# Altium integrated library National Semiconductor Amplifier.IntLib: 1665 symbols (part 5 of 44)
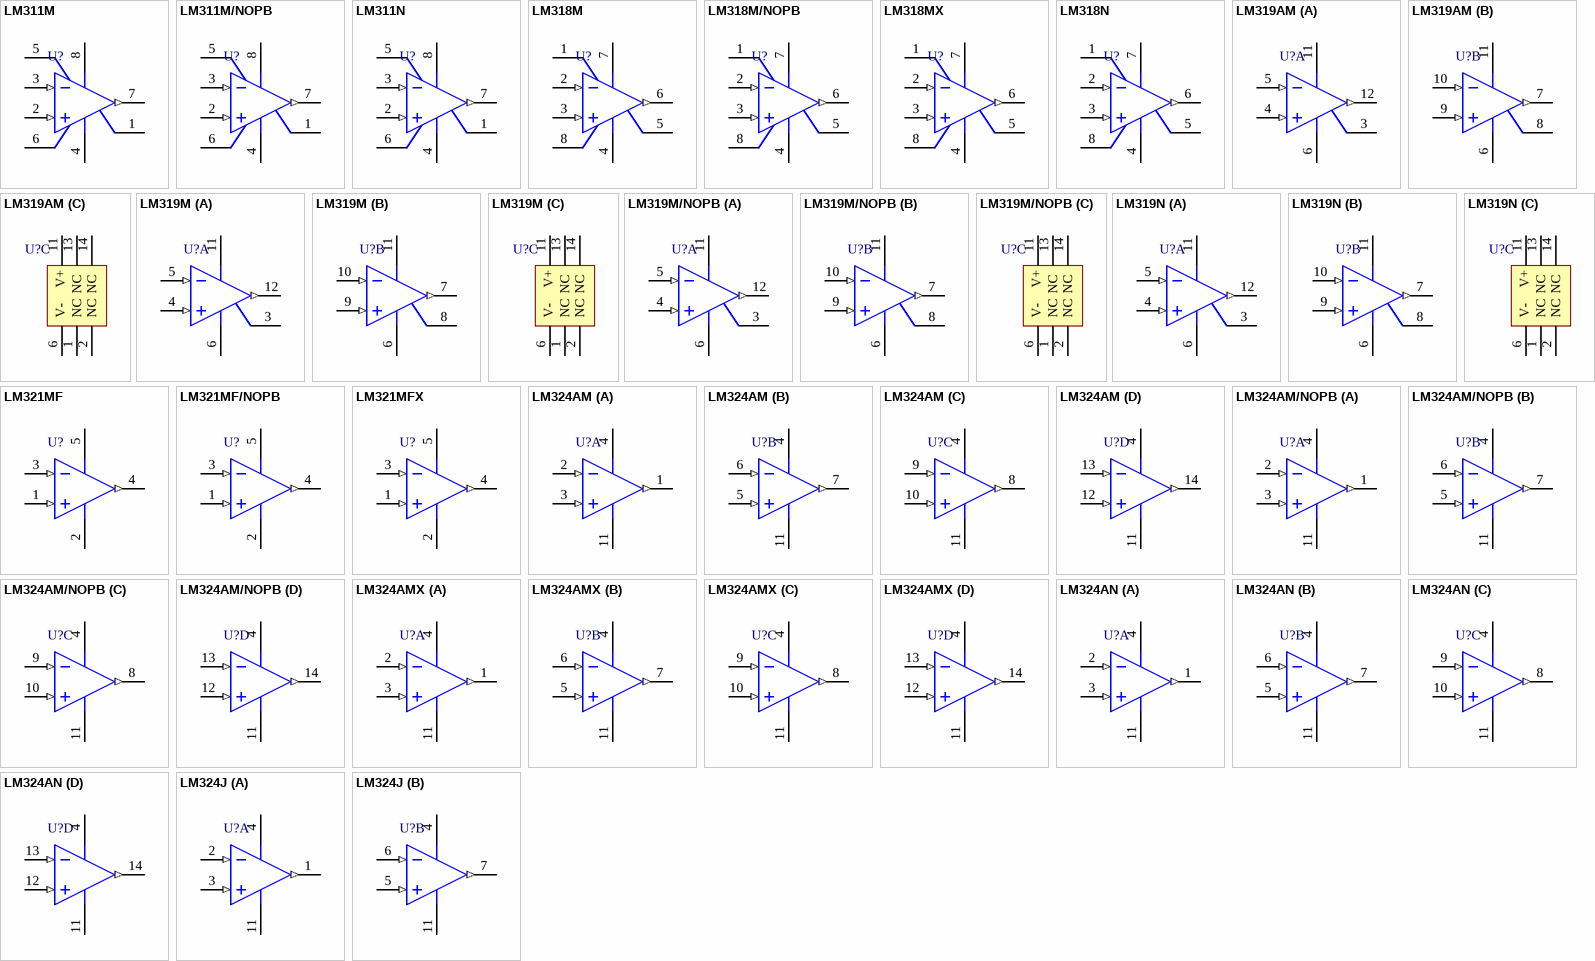
[diagram p88: symbols LM311M to LM324J]

## LM318MX
designator U?
Operational Amplifier, 8-pin Narrow SOIC; PartNumber: LM318MX; Manufacturer: National Semiconductor; PackageTopMarking: NSZXTT*LM*318M; PowerWise: N; CompType: Amplifiers; High-Reliability: Y; DatasheetVersion: Aug-2000; PackageVersion: revM, May-2009; PackageReference: M08A; PackageDescription: SOIC Narrow, 4.9 x 3.9 x 1.45mm, 8 Lead, 1.27mm Pitch; RoHS: N; PinCount: 8; Code_JEDEC: MS-012-AA; Code_IPC: SOIC127P600-8; ComponentLink1Description: Manufacturer URL; ComponentLink1URL: http://www.national.com/; ComponentLink2Description: LM318 Datasheet; ComponentLink2URL: http://www.national.com/ds/LM/LM318.pdf; ComponentLink3Description: LM318 Web Page; ComponentLink3URL: http://www.national.com/pf/LM/LM318.html; ComponentLink4Description: M08A Package Page; ComponentLink4URL: http://www.national.com/packaging/folders/m08a.html
footprint M08A_N (SOIC, 8-Leads, Body 4.9x3.9mm, Pitch 1.27mm, IPC Medium Density)
footprint M08A_L (SOIC, 8-Leads, Body 4.9x3.9mm, Pitch 1.27mm, IPC High Density)
footprint M08A_M (SOIC, 8-Leads, Body 4.9x3.9mm, Pitch 1.27mm, IPC Low Density)
pins: 1 BAL/COMP1, 2 IN- (in), 3 IN+ (in), 4 V- (power), 5 BAL/COMP3, 6 OUT (out), 7 V+ (power), 8 COMP2

## LM318N
designator U?
Operational Amplifier, 8-pin MDIP; PartNumber: LM318N; Manufacturer: National Semiconductor; PackageTopMarking: NSUZXYTTE#*LM*318N; PowerWise: N; CompType: Amplifiers; High-Reliability: Y; DatasheetVersion: Aug-2000; PackageVersion: revG, May-2006; PackageReference: N08E; PackageDescription: MDIP, .365 x .250 x .130in, 8 Lead, .100in Pitch; RoHS: N; PinCount: 8; Code_JEDEC: MS-001-BA; ComponentLink1Description: Manufacturer URL; ComponentLink1URL: http://www.national.com/; ComponentLink2Description: LM318 Datasheet; ComponentLink2URL: http://www.national.com/ds/LM/LM318.pdf; ComponentLink3Description: LM318 Web Page; ComponentLink3URL: http://www.national.com/pf/LM/LM318.html; ComponentLink4Description: N08E Package Page; ComponentLink4URL: http://www.national.com/packaging/folders/n08e.html
footprint N08E (DIP, 8-Leads, Row Spacing 7.62mm, Pitch 2.54mm, Body 9.91x6.35mm)
pins: 1 BAL/COMP1, 2 IN- (in), 3 IN+ (in), 4 V- (power), 5 BAL/COMP3, 6 OUT (out), 7 V+ (power), 8 COMP2

## LM319AM
designator U?
High Speed Dual Comparator, 14-pin Narrow SOIC; PartNumber: LM319AM; Manufacturer: National Semiconductor; PackageTopMarking: NSUZXYTTE#*LM319AM; PowerWise: N; CompType: Amplifiers; High-Reliability: Y; DatasheetVersion: Aug-2000; PackageVersion: revJ, Jan-1996; PackageReference: M14A; PackageDescription: Molded Package S.O., .150in Wide, 14 Lead; RoHS: N; PinCount: 14; Code_JEDEC: MS-012AB; Code_IPC: SOIC127P600-14; ComponentLink1Description: Manufacturer URL; ComponentLink1URL: http://www.national.com/; ComponentLink2Description: LM319 Datasheet; ComponentLink2URL: http://www.national.com/ds/LM/LM319.pdf; ComponentLink3Description: LM319 Web Page; ComponentLink3URL: http://www.national.com/pf/LM/LM319.html; ComponentLink4Description: M14A Package Page; ComponentLink4URL: http://www.national.com/packaging/folders/m14a.html
footprint M14A_N (SOIC, 14-Leads, Body 8.6x3.9mm, Pitch 1.27mm, IPC Medium Density)
footprint M14A_L (SOIC, 14-Leads, Body 8.6x3.9mm, Pitch 1.27mm, IPC High Density)
footprint M14A_M (SOIC, 14-Leads, Body 8.6x3.9mm, Pitch 1.27mm, IPC Low Density)
pins on every part: 6 V- (power), 11 V+ (power)
part A pins: 3 GND1 (power), 4 IN1+ (in), 5 IN1- (in), 12 OUT1 (out)
part B pins: 7 OUT2 (out), 8 GND2 (power), 9 IN2+ (in), 10 IN2- (in)
part C pins: 1 NC, 2 NC, 13 NC, 14 NC

## LM319M
designator U?
High Speed Dual Comparator, 14-pin Narrow SOIC; PartNumber: LM319M; Manufacturer: National Semiconductor; PackageTopMarking: NSUZXYTTE#*LM319M; PowerWise: N; CompType: Amplifiers; High-Reliability: Y; DatasheetVersion: Aug-2000; PackageVersion: revJ, Jan-1996; PackageReference: M14A; PackageDescription: Molded Package S.O., .150in Wide, 14 Lead; RoHS: N; PinCount: 14; Code_JEDEC: MS-012AB; Code_IPC: SOIC127P600-14; ComponentLink1Description: Manufacturer URL; ComponentLink1URL: http://www.national.com/; ComponentLink2Description: LM319 Datasheet; ComponentLink2URL: http://www.national.com/ds/LM/LM319.pdf; ComponentLink3Description: LM319 Web Page; ComponentLink3URL: http://www.national.com/pf/LM/LM319.html; ComponentLink4Description: M14A Package Page; ComponentLink4URL: http://www.national.com/packaging/folders/m14a.html
footprint M14A_N (SOIC, 14-Leads, Body 8.6x3.9mm, Pitch 1.27mm, IPC Medium Density)
footprint M14A_L (SOIC, 14-Leads, Body 8.6x3.9mm, Pitch 1.27mm, IPC High Density)
footprint M14A_M (SOIC, 14-Leads, Body 8.6x3.9mm, Pitch 1.27mm, IPC Low Density)
pins on every part: 6 V- (power), 11 V+ (power)
part A pins: 3 GND1 (power), 4 IN1+ (in), 5 IN1- (in), 12 OUT1 (out)
part B pins: 7 OUT2 (out), 8 GND2 (power), 9 IN2+ (in), 10 IN2- (in)
part C pins: 1 NC, 2 NC, 13 NC, 14 NC

## LM319M/NOPB
designator U?
High Speed Dual Comparator, 14-pin Narrow SOIC, Pb-Free; PartNumber: LM319M/NOPB; Manufacturer: National Semiconductor; PackageTopMarking: NSUZXYTTE#*LM319M; PowerWise: N; CompType: Amplifiers; High-Reliability: Y; DatasheetVersion: Aug-2000; PackageVersion: revJ, Jan-1996; PackageReference: M14A; PackageDescription: Molded Package S.O., .150in Wide, 14 Lead; RoHS: Y; PinCount: 14; Code_JEDEC: MS-012AB; Code_IPC: SOIC127P600-14; ComponentLink1Description: Manufacturer URL; ComponentLink1URL: http://www.national.com/; ComponentLink2Description: LM319 Datasheet; ComponentLink2URL: http://www.national.com/ds/LM/LM319.pdf; ComponentLink3Description: LM319 Web Page; ComponentLink3URL: http://www.national.com/pf/LM/LM319.html; ComponentLink4Description: M14A Package Page; ComponentLink4URL: http://www.national.com/packaging/folders/m14a.html
footprint M14A_N (SOIC, 14-Leads, Body 8.6x3.9mm, Pitch 1.27mm, IPC Medium Density)
footprint M14A_L (SOIC, 14-Leads, Body 8.6x3.9mm, Pitch 1.27mm, IPC High Density)
footprint M14A_M (SOIC, 14-Leads, Body 8.6x3.9mm, Pitch 1.27mm, IPC Low Density)
pins on every part: 6 V- (power), 11 V+ (power)
part A pins: 3 GND1 (power), 4 IN1+ (in), 5 IN1- (in), 12 OUT1 (out)
part B pins: 7 OUT2 (out), 8 GND2 (power), 9 IN2+ (in), 10 IN2- (in)
part C pins: 1 NC, 2 NC, 13 NC, 14 NC

## LM319N
designator U?
High Speed Dual Comparator, 14-pin MDIP; PartNumber: LM319N; Manufacturer: National Semiconductor; PackageTopMarking: NSUZXYYTTE#*LM319N; PowerWise: N; CompType: Amplifiers; High-Reliability: Y; DatasheetVersion: Aug-2000; PackageVersion: revG, May-2006; PackageReference: N14A; PackageDescription: MDIP, .750 x .250 x.130in, 14 Lead, .100in Pitch; RoHS: N; PinCount: 14; Code_JEDEC: MS-001-AA; ComponentLink1Description: Manufacturer URL; ComponentLink1URL: http://www.national.com/; ComponentLink2Description: LM319 Datasheet; ComponentLink2URL: http://www.national.com/ds/LM/LM319.pdf; ComponentLink3Description: LM319 Web Page; ComponentLink3URL: http://www.national.com/pf/LM/LM319.html; ComponentLink4Description: N14A Package Page; ComponentLink4URL: http://www.national.com/packaging/folders/n14a.html
footprint N14A (DIP, 14-Leads, Row Spacing 7.62mm, Pitch 2.54mm, Body 19.56x6.35mm)
pins on every part: 6 V- (power), 11 V+ (power)
part A pins: 3 GND1 (power), 4 IN1+ (in), 5 IN1- (in), 12 OUT1 (out)
part B pins: 7 OUT2 (out), 8 GND2 (power), 9 IN2+ (in), 10 IN2- (in)
part C pins: 1 NC, 2 NC, 13 NC, 14 NC

## LM321MF
designator U?
Low Power Single Op Amp, 5-pin SOT-23; PartNumber: LM321MF; Manufacturer: National Semiconductor; PackageTopMarking: A63A*XTT; PowerWise: N; CompType: Amplifiers; High-Reliability: Y; DatasheetVersion: Apr-2001; PackageVersion: revD, Aug-2008; PackageReference: MF05A; PackageDescription: Molded SOT-23, .115 x .063 x .040 in Body, 5 Lead, .0375 in Pitch; RoHS: N; PinCount: 5; ComponentLink1Description: Manufacturer URL; ComponentLink1URL: http://www.national.com/; ComponentLink2Description: LM321 Datasheet; ComponentLink2URL: http://www.national.com/ds/LM/LM321.pdf; ComponentLink3Description: LM321 Web Page; ComponentLink3URL: http://www.national.com/pf/LM/LM321.html; ComponentLink4Description: MF05A Package Page; ComponentLink4URL: http://www.national.com/packaging/folders/mf05a.html
footprint MF05A_N (SOT23, 5-Leads, Body 2.9x1.6mm, Pitch 0.95mm, Lead Span 2.8mm, IPC Medium Density)
footprint MF05A_L (SOT23, 5-Leads, Body 2.9x1.6mm, Pitch 0.95mm, Lead Span 2.8mm, IPC High Density)
footprint MF05A_M (SOT23, 5-Leads, Body 2.9x1.6mm, Pitch 0.95mm, Lead Span 2.8mm, IPC Low Density)
pins: 1 IN+ (in), 2 V- (power), 3 IN- (in), 4 OUT (out), 5 V+ (power)

## LM321MF/NOPB
designator U?
Low Power Single Op Amp, 5-pin SOT-23, Pb-Free; PartNumber: LM321MF/NOPB; Manufacturer: National Semiconductor; PackageTopMarking: A63A*XTT; PowerWise: N; CompType: Amplifiers; High-Reliability: Y; DatasheetVersion: Apr-2001; PackageVersion: revD, Aug-2008; PackageReference: MF05A; PackageDescription: Molded SOT-23, .115 x .063 x .040 in Body, 5 Lead, .0375 in Pitch; RoHS: Y; PinCount: 5; ComponentLink1Description: Manufacturer URL; ComponentLink1URL: http://www.national.com/; ComponentLink2Description: LM321 Datasheet; ComponentLink2URL: http://www.national.com/ds/LM/LM321.pdf; ComponentLink3Description: LM321 Web Page; ComponentLink3URL: http://www.national.com/pf/LM/LM321.html; ComponentLink4Description: MF05A Package Page; ComponentLink4URL: http://www.national.com/packaging/folders/mf05a.html
footprint MF05A_N (SOT23, 5-Leads, Body 2.9x1.6mm, Pitch 0.95mm, Lead Span 2.8mm, IPC Medium Density)
footprint MF05A_L (SOT23, 5-Leads, Body 2.9x1.6mm, Pitch 0.95mm, Lead Span 2.8mm, IPC High Density)
footprint MF05A_M (SOT23, 5-Leads, Body 2.9x1.6mm, Pitch 0.95mm, Lead Span 2.8mm, IPC Low Density)
pins: 1 IN+ (in), 2 V- (power), 3 IN- (in), 4 OUT (out), 5 V+ (power)

## LM321MFX
designator U?
Low Power Single Op Amp, 5-pin SOT-23; PartNumber: LM321MFX; Manufacturer: National Semiconductor; PackageTopMarking: A63A*XTT; PowerWise: N; CompType: Amplifiers; High-Reliability: Y; DatasheetVersion: Apr-2001; PackageVersion: revD, Aug-2008; PackageReference: MF05A; PackageDescription: Molded SOT-23, .115 x .063 x .040 in Body, 5 Lead, .0375 in Pitch; RoHS: N; PinCount: 5; ComponentLink1Description: Manufacturer URL; ComponentLink1URL: http://www.national.com/; ComponentLink2Description: LM321 Datasheet; ComponentLink2URL: http://www.national.com/ds/LM/LM321.pdf; ComponentLink3Description: LM321 Web Page; ComponentLink3URL: http://www.national.com/pf/LM/LM321.html; ComponentLink4Description: MF05A Package Page; ComponentLink4URL: http://www.national.com/packaging/folders/mf05a.html
footprint MF05A_N (SOT23, 5-Leads, Body 2.9x1.6mm, Pitch 0.95mm, Lead Span 2.8mm, IPC Medium Density)
footprint MF05A_L (SOT23, 5-Leads, Body 2.9x1.6mm, Pitch 0.95mm, Lead Span 2.8mm, IPC High Density)
footprint MF05A_M (SOT23, 5-Leads, Body 2.9x1.6mm, Pitch 0.95mm, Lead Span 2.8mm, IPC Low Density)
pins: 1 IN+ (in), 2 V- (power), 3 IN- (in), 4 OUT (out), 5 V+ (power)

## LM324AM
designator U?
Low Power Quad Operational Amplifier, 14-pin Narrow SOIC; PartNumber: LM324AM; Manufacturer: National Semiconductor; PackageTopMarking: NSUZXYTTE#*LM324AM; PowerWise: N; CompType: Amplifiers; High-Reliability: Y; DatasheetVersion: Aug-2000; PackageVersion: revJ, Jan-1996; PackageReference: M14A; PackageDescription: Molded Package S.O., .150in Wide, 14 Lead; RoHS: N; PinCount: 14; Code_JEDEC: MS-012AB; Code_IPC: SOIC127P600-14; ComponentLink1Description: Manufacturer URL; ComponentLink1URL: http://www.national.com/; ComponentLink2Description: LM324 Datasheet; ComponentLink2URL: http://www.national.com/ds/LM/LM324.pdf; ComponentLink3Description: LM324 Web Page; ComponentLink3URL: http://www.national.com/pf/LM/LM324.html; ComponentLink4Description: M14A Package Page; ComponentLink4URL: http://www.national.com/packaging/folders/m14a.html
footprint M14A_N (SOIC, 14-Leads, Body 8.6x3.9mm, Pitch 1.27mm, IPC Medium Density)
footprint M14A_L (SOIC, 14-Leads, Body 8.6x3.9mm, Pitch 1.27mm, IPC High Density)
footprint M14A_M (SOIC, 14-Leads, Body 8.6x3.9mm, Pitch 1.27mm, IPC Low Density)
pins on every part: 4 V+ (power), 11 GND (power)
part A pins: 1 OUT1 (out), 2 IN1- (in), 3 IN1+ (in)
part B pins: 5 IN2+ (in), 6 IN2- (in), 7 OUT2 (out)
part C pins: 8 OUT3 (out), 9 IN3- (in), 10 IN3+ (in)
part D pins: 12 IN4+ (in), 13 IN4- (in), 14 OUT4 (out)

## LM324AM/NOPB
designator U?
Low Power Quad Operational Amplifier, 14-pin Narrow SOIC, Pb-Free; PartNumber: LM324AM/NOPB; Manufacturer: National Semiconductor; PackageTopMarking: NSUZXYTTE#*LM324AM; PowerWise: N; CompType: Amplifiers; High-Reliability: Y; DatasheetVersion: Aug-2000; PackageVersion: revJ, Jan-1996; PackageReference: M14A; PackageDescription: Molded Package S.O., .150in Wide, 14 Lead; RoHS: Y; PinCount: 14; Code_JEDEC: MS-012AB; Code_IPC: SOIC127P600-14; ComponentLink1Description: Manufacturer URL; ComponentLink1URL: http://www.national.com/; ComponentLink2Description: LM324 Datasheet; ComponentLink2URL: http://www.national.com/ds/LM/LM324.pdf; ComponentLink3Description: LM324 Web Page; ComponentLink3URL: http://www.national.com/pf/LM/LM324.html; ComponentLink4Description: M14A Package Page; ComponentLink4URL: http://www.national.com/packaging/folders/m14a.html
footprint M14A_N (SOIC, 14-Leads, Body 8.6x3.9mm, Pitch 1.27mm, IPC Medium Density)
footprint M14A_L (SOIC, 14-Leads, Body 8.6x3.9mm, Pitch 1.27mm, IPC High Density)
footprint M14A_M (SOIC, 14-Leads, Body 8.6x3.9mm, Pitch 1.27mm, IPC Low Density)
pins on every part: 4 V+ (power), 11 GND (power)
part A pins: 1 OUT1 (out), 2 IN1- (in), 3 IN1+ (in)
part B pins: 5 IN2+ (in), 6 IN2- (in), 7 OUT2 (out)
part C pins: 8 OUT3 (out), 9 IN3- (in), 10 IN3+ (in)
part D pins: 12 IN4+ (in), 13 IN4- (in), 14 OUT4 (out)

## LM324AMX
designator U?
Low Power Quad Operational Amplifier, 14-pin Narrow SOIC; PartNumber: LM324AMX; Manufacturer: National Semiconductor; PackageTopMarking: NSUZXYTTE#*LM324AM; PowerWise: N; CompType: Amplifiers; High-Reliability: Y; DatasheetVersion: Aug-2000; PackageVersion: revJ, Jan-1996; PackageReference: M14A; PackageDescription: Molded Package S.O., .150in Wide, 14 Lead; RoHS: N; PinCount: 14; Code_JEDEC: MS-012AB; Code_IPC: SOIC127P600-14; ComponentLink1Description: Manufacturer URL; ComponentLink1URL: http://www.national.com/; ComponentLink2Description: LM324 Datasheet; ComponentLink2URL: http://www.national.com/ds/LM/LM324.pdf; ComponentLink3Description: LM324 Web Page; ComponentLink3URL: http://www.national.com/pf/LM/LM324.html; ComponentLink4Description: M14A Package Page; ComponentLink4URL: http://www.national.com/packaging/folders/m14a.html
footprint M14A_N (SOIC, 14-Leads, Body 8.6x3.9mm, Pitch 1.27mm, IPC Medium Density)
footprint M14A_L (SOIC, 14-Leads, Body 8.6x3.9mm, Pitch 1.27mm, IPC High Density)
footprint M14A_M (SOIC, 14-Leads, Body 8.6x3.9mm, Pitch 1.27mm, IPC Low Density)
pins on every part: 4 V+ (power), 11 GND (power)
part A pins: 1 OUT1 (out), 2 IN1- (in), 3 IN1+ (in)
part B pins: 5 IN2+ (in), 6 IN2- (in), 7 OUT2 (out)
part C pins: 8 OUT3 (out), 9 IN3- (in), 10 IN3+ (in)
part D pins: 12 IN4+ (in), 13 IN4- (in), 14 OUT4 (out)

## LM324AN
designator U?
Low Power Quad Operational Amplifier, 14-pin MDIP; PartNumber: LM324AN; Manufacturer: National Semiconductor; PackageTopMarking: NSUZXYYTTE#*LM324AN; PowerWise: N; CompType: Amplifiers; High-Reliability: Y; DatasheetVersion: Aug-2000; PackageVersion: revG, May-2006; PackageReference: N14A; PackageDescription: MDIP, .750 x .250 x.130in, 14 Lead, .100in Pitch; RoHS: N; PinCount: 14; Code_JEDEC: MS-001-AA; ComponentLink1Description: Manufacturer URL; ComponentLink1URL: http://www.national.com/; ComponentLink2Description: LM324 Datasheet; ComponentLink2URL: http://www.national.com/ds/LM/LM324.pdf; ComponentLink3Description: LM324 Web Page; ComponentLink3URL: http://www.national.com/pf/LM/LM324.html; ComponentLink4Description: N14A Package Page; ComponentLink4URL: http://www.national.com/packaging/folders/n14a.html
footprint N14A (DIP, 14-Leads, Row Spacing 7.62mm, Pitch 2.54mm, Body 19.56x6.35mm)
pins on every part: 4 V+ (power), 11 GND (power)
part A pins: 1 OUT1 (out), 2 IN1- (in), 3 IN1+ (in)
part B pins: 5 IN2+ (in), 6 IN2- (in), 7 OUT2 (out)
part C pins: 8 OUT3 (out), 9 IN3- (in), 10 IN3+ (in)
part D pins: 12 IN4+ (in), 13 IN4- (in), 14 OUT4 (out)

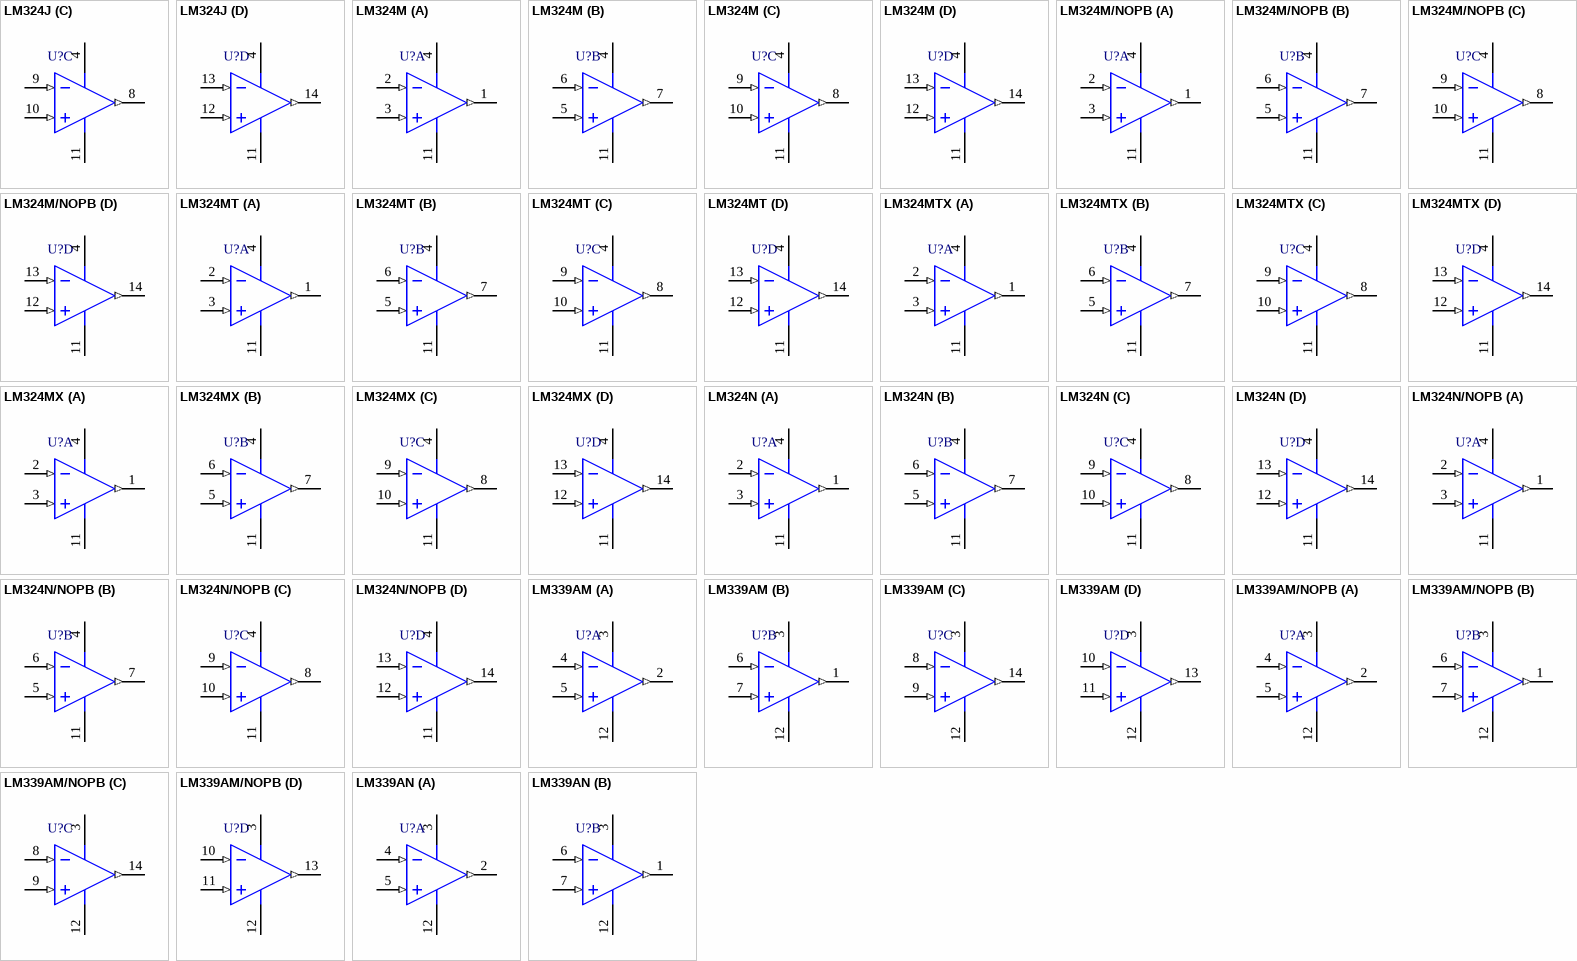
[diagram p11: symbols LM324J to LM339AN]

## LM324J
designator U?
Low Power Quad Operational Amplifier, 14-pin CerDIP; PartNumber: LM324J; Manufacturer: National Semiconductor; PackageTopMarking: NSUZXYYTT*LM324J; PowerWise: N; CompType: Amplifiers; High-Reliability: Y; DatasheetVersion: Aug-2000; PackageVersion: revJ, Jul-2002; PackageReference: J14A; PackageDescription: Cerdip, .400 x .310in Body, 14 Lead, .300in Centers, .100in Pitch; RoHS: N; PinCount: 14; ComponentLink1Description: Manufacturer URL; ComponentLink1URL: http://www.national.com/; ComponentLink2Description: LM324 Datasheet; ComponentLink2URL: http://www.national.com/ds/LM/LM324.pdf; ComponentLink3Description: LM324 Web Page; ComponentLink3URL: http://www.national.com/pf/LM/LM324.html; ComponentLink4Description: J14A Package Page; ComponentLink4URL: http://www.national.com/packaging/folders/j14a.html
footprint J14A (DIP, 14-Leads, Row Spacing 7.62mm, Pitch 2.54mm, Body 19.56x6.73mm)
pins on every part: 4 V+ (power), 11 GND (power)
part A pins: 1 OUT1 (out), 2 IN1- (in), 3 IN1+ (in)
part B pins: 5 IN2+ (in), 6 IN2- (in), 7 OUT2 (out)
part C pins: 8 OUT3 (out), 9 IN3- (in), 10 IN3+ (in)
part D pins: 12 IN4+ (in), 13 IN4- (in), 14 OUT4 (out)

## LM324M
designator U?
Low Power Quad Operational Amplifier, 14-pin Narrow SOIC; PartNumber: LM324M; Manufacturer: National Semiconductor; PackageTopMarking: NSUZXYTTE#*LM324M; PowerWise: N; CompType: Amplifiers; High-Reliability: Y; DatasheetVersion: Aug-2000; PackageVersion: revJ, Jan-1996; PackageReference: M14A; PackageDescription: Molded Package S.O., .150in Wide, 14 Lead; RoHS: N; PinCount: 14; Code_JEDEC: MS-012AB; Code_IPC: SOIC127P600-14; ComponentLink1Description: Manufacturer URL; ComponentLink1URL: http://www.national.com/; ComponentLink2Description: LM324 Datasheet; ComponentLink2URL: http://www.national.com/ds/LM/LM324.pdf; ComponentLink3Description: LM324 Web Page; ComponentLink3URL: http://www.national.com/pf/LM/LM324.html; ComponentLink4Description: M14A Package Page; ComponentLink4URL: http://www.national.com/packaging/folders/m14a.html
footprint M14A_N (SOIC, 14-Leads, Body 8.6x3.9mm, Pitch 1.27mm, IPC Medium Density)
footprint M14A_L (SOIC, 14-Leads, Body 8.6x3.9mm, Pitch 1.27mm, IPC High Density)
footprint M14A_M (SOIC, 14-Leads, Body 8.6x3.9mm, Pitch 1.27mm, IPC Low Density)
pins on every part: 4 V+ (power), 11 GND (power)
part A pins: 1 OUT1 (out), 2 IN1- (in), 3 IN1+ (in)
part B pins: 5 IN2+ (in), 6 IN2- (in), 7 OUT2 (out)
part C pins: 8 OUT3 (out), 9 IN3- (in), 10 IN3+ (in)
part D pins: 12 IN4+ (in), 13 IN4- (in), 14 OUT4 (out)

## LM324M/NOPB
designator U?
Low Power Quad Operational Amplifier, 14-pin Narrow SOIC, Pb-Free; PartNumber: LM324M/NOPB; Manufacturer: National Semiconductor; PackageTopMarking: NSUZXYTTE#*LM324M; PowerWise: N; CompType: Amplifiers; High-Reliability: Y; DatasheetVersion: Aug-2000; PackageVersion: revJ, Jan-1996; PackageReference: M14A; PackageDescription: Molded Package S.O., .150in Wide, 14 Lead; RoHS: Y; PinCount: 14; Code_JEDEC: MS-012AB; Code_IPC: SOIC127P600-14; ComponentLink1Description: Manufacturer URL; ComponentLink1URL: http://www.national.com/; ComponentLink2Description: LM324 Datasheet; ComponentLink2URL: http://www.national.com/ds/LM/LM324.pdf; ComponentLink3Description: LM324 Web Page; ComponentLink3URL: http://www.national.com/pf/LM/LM324.html; ComponentLink4Description: M14A Package Page; ComponentLink4URL: http://www.national.com/packaging/folders/m14a.html
footprint M14A_N (SOIC, 14-Leads, Body 8.6x3.9mm, Pitch 1.27mm, IPC Medium Density)
footprint M14A_L (SOIC, 14-Leads, Body 8.6x3.9mm, Pitch 1.27mm, IPC High Density)
footprint M14A_M (SOIC, 14-Leads, Body 8.6x3.9mm, Pitch 1.27mm, IPC Low Density)
pins on every part: 4 V+ (power), 11 GND (power)
part A pins: 1 OUT1 (out), 2 IN1- (in), 3 IN1+ (in)
part B pins: 5 IN2+ (in), 6 IN2- (in), 7 OUT2 (out)
part C pins: 8 OUT3 (out), 9 IN3- (in), 10 IN3+ (in)
part D pins: 12 IN4+ (in), 13 IN4- (in), 14 OUT4 (out)

## LM324MT
designator U?
Low Power Quad Operational Amplifier, 14-pin TSSOP; PartNumber: LM324MT; Manufacturer: National Semiconductor; PackageTopMarking: NSZXYTT*LM324*MT; PowerWise: N; CompType: Amplifiers; High-Reliability: Y; DatasheetVersion: Aug-2000; PackageVersion: revD, Jun-2003; PackageReference: MTC14; PackageDescription: Molded TSSOP, JEDEC, 5 x 4.4 x 0.9mm Body, 14 Lead, 0.65mm Pitch; RoHS: N; PinCount: 14; Code_JEDEC: MO-153-AB-1; ComponentLink1Description: Manufacturer URL; ComponentLink1URL: http://www.national.com/; ComponentLink2Description: LM324 Datasheet; ComponentLink2URL: http://www.national.com/ds/LM/LM324.pdf; ComponentLink3Description: LM324 Web Page; ComponentLink3URL: http://www.national.com/pf/LM/LM324.html; ComponentLink4Description: MTC14 Package Page; ComponentLink4URL: http://www.national.com/packaging/folders/mtc14.html
footprint MTC14_N (TSOP, 14-Leads, Body 5x4.4mm, Pitch 0.65mm, IPC Medium Density)
footprint MTC14_L (TSOP, 14-Leads, Body 5x4.4mm, Pitch 0.65mm, IPC High Density)
footprint MTC14_M (TSOP, 14-Leads, Body 5x4.4mm, Pitch 0.65mm, IPC Low Density)
pins on every part: 4 V+ (power), 11 GND (power)
part A pins: 1 OUT1 (out), 2 IN1- (in), 3 IN1+ (in)
part B pins: 5 IN2+ (in), 6 IN2- (in), 7 OUT2 (out)
part C pins: 8 OUT3 (out), 9 IN3- (in), 10 IN3+ (in)
part D pins: 12 IN4+ (in), 13 IN4- (in), 14 OUT4 (out)

## LM324MTX
designator U?
Low Power Quad Operational Amplifier, 14-pin TSSOP; PartNumber: LM324MTX; Manufacturer: National Semiconductor; PackageTopMarking: NSZXYTT*LM324*MT; PowerWise: N; CompType: Amplifiers; High-Reliability: Y; DatasheetVersion: Aug-2000; PackageVersion: revD, Jun-2003; PackageReference: MTC14; PackageDescription: Molded TSSOP, JEDEC, 5 x 4.4 x 0.9mm Body, 14 Lead, 0.65mm Pitch; RoHS: N; PinCount: 14; Code_JEDEC: MO-153-AB-1; ComponentLink1Description: Manufacturer URL; ComponentLink1URL: http://www.national.com/; ComponentLink2Description: LM324 Datasheet; ComponentLink2URL: http://www.national.com/ds/LM/LM324.pdf; ComponentLink3Description: LM324 Web Page; ComponentLink3URL: http://www.national.com/pf/LM/LM324.html; ComponentLink4Description: MTC14 Package Page; ComponentLink4URL: http://www.national.com/packaging/folders/mtc14.html
footprint MTC14_N (TSOP, 14-Leads, Body 5x4.4mm, Pitch 0.65mm, IPC Medium Density)
footprint MTC14_L (TSOP, 14-Leads, Body 5x4.4mm, Pitch 0.65mm, IPC High Density)
footprint MTC14_M (TSOP, 14-Leads, Body 5x4.4mm, Pitch 0.65mm, IPC Low Density)
pins on every part: 4 V+ (power), 11 GND (power)
part A pins: 1 OUT1 (out), 2 IN1- (in), 3 IN1+ (in)
part B pins: 5 IN2+ (in), 6 IN2- (in), 7 OUT2 (out)
part C pins: 8 OUT3 (out), 9 IN3- (in), 10 IN3+ (in)
part D pins: 12 IN4+ (in), 13 IN4- (in), 14 OUT4 (out)

## LM324MX
designator U?
Low Power Quad Operational Amplifier, 14-pin Narrow SOIC; PartNumber: LM324MX; Manufacturer: National Semiconductor; PackageTopMarking: NSUZXYTTE#*LM324M; PowerWise: N; CompType: Amplifiers; High-Reliability: Y; DatasheetVersion: Aug-2000; PackageVersion: revJ, Jan-1996; PackageReference: M14A; PackageDescription: Molded Package S.O., .150in Wide, 14 Lead; RoHS: N; PinCount: 14; Code_JEDEC: MS-012AB; Code_IPC: SOIC127P600-14; ComponentLink1Description: Manufacturer URL; ComponentLink1URL: http://www.national.com/; ComponentLink2Description: LM324 Datasheet; ComponentLink2URL: http://www.national.com/ds/LM/LM324.pdf; ComponentLink3Description: LM324 Web Page; ComponentLink3URL: http://www.national.com/pf/LM/LM324.html; ComponentLink4Description: M14A Package Page; ComponentLink4URL: http://www.national.com/packaging/folders/m14a.html
footprint M14A_N (SOIC, 14-Leads, Body 8.6x3.9mm, Pitch 1.27mm, IPC Medium Density)
footprint M14A_L (SOIC, 14-Leads, Body 8.6x3.9mm, Pitch 1.27mm, IPC High Density)
footprint M14A_M (SOIC, 14-Leads, Body 8.6x3.9mm, Pitch 1.27mm, IPC Low Density)
pins on every part: 4 V+ (power), 11 GND (power)
part A pins: 1 OUT1 (out), 2 IN1- (in), 3 IN1+ (in)
part B pins: 5 IN2+ (in), 6 IN2- (in), 7 OUT2 (out)
part C pins: 8 OUT3 (out), 9 IN3- (in), 10 IN3+ (in)
part D pins: 12 IN4+ (in), 13 IN4- (in), 14 OUT4 (out)

## LM324N
designator U?
Low Power Quad Operational Amplifier, 14-pin MDIP; PartNumber: LM324N; Manufacturer: National Semiconductor; PackageTopMarking: NSUZXYYTTE#*LM324N; PowerWise: N; CompType: Amplifiers; High-Reliability: Y; DatasheetVersion: Aug-2000; PackageVersion: revG, May-2006; PackageReference: N14A; PackageDescription: MDIP, .750 x .250 x.130in, 14 Lead, .100in Pitch; RoHS: N; PinCount: 14; Code_JEDEC: MS-001-AA; ComponentLink1Description: Manufacturer URL; ComponentLink1URL: http://www.national.com/; ComponentLink2Description: LM324 Datasheet; ComponentLink2URL: http://www.national.com/ds/LM/LM324.pdf; ComponentLink3Description: LM324 Web Page; ComponentLink3URL: http://www.national.com/pf/LM/LM324.html; ComponentLink4Description: N14A Package Page; ComponentLink4URL: http://www.national.com/packaging/folders/n14a.html
footprint N14A (DIP, 14-Leads, Row Spacing 7.62mm, Pitch 2.54mm, Body 19.56x6.35mm)
pins on every part: 4 V+ (power), 11 GND (power)
part A pins: 1 OUT1 (out), 2 IN1- (in), 3 IN1+ (in)
part B pins: 5 IN2+ (in), 6 IN2- (in), 7 OUT2 (out)
part C pins: 8 OUT3 (out), 9 IN3- (in), 10 IN3+ (in)
part D pins: 12 IN4+ (in), 13 IN4- (in), 14 OUT4 (out)

## LM324N/NOPB
designator U?
Low Power Quad Operational Amplifier, 14-pin MDIP, Pb-Free; PartNumber: LM324N/NOPB; Manufacturer: National Semiconductor; PackageTopMarking: NSUZXYYTTE#*LM324N; PowerWise: N; CompType: Amplifiers; High-Reliability: Y; DatasheetVersion: Aug-2000; PackageVersion: revG, May-2006; PackageReference: N14A; PackageDescription: MDIP, .750 x .250 x.130in, 14 Lead, .100in Pitch; RoHS: Y; PinCount: 14; Code_JEDEC: MS-001-AA; ComponentLink1Description: Manufacturer URL; ComponentLink1URL: http://www.national.com/; ComponentLink2Description: LM324 Datasheet; ComponentLink2URL: http://www.national.com/ds/LM/LM324.pdf; ComponentLink3Description: LM324 Web Page; ComponentLink3URL: http://www.national.com/pf/LM/LM324.html; ComponentLink4Description: N14A Package Page; ComponentLink4URL: http://www.national.com/packaging/folders/n14a.html
footprint N14A (DIP, 14-Leads, Row Spacing 7.62mm, Pitch 2.54mm, Body 19.56x6.35mm)
pins on every part: 4 V+ (power), 11 GND (power)
part A pins: 1 OUT1 (out), 2 IN1- (in), 3 IN1+ (in)
part B pins: 5 IN2+ (in), 6 IN2- (in), 7 OUT2 (out)
part C pins: 8 OUT3 (out), 9 IN3- (in), 10 IN3+ (in)
part D pins: 12 IN4+ (in), 13 IN4- (in), 14 OUT4 (out)

## LM339AM
designator U?
Low Power Low Offset Voltage Quad Comparator, 14-pin Narrow SOIC; PartNumber: LM339AM; Manufacturer: National Semiconductor; PackageTopMarking: NSUZXYTTE#*LM339AM; PowerWise: N; CompType: Amplifiers; High-Reliability: Y; DatasheetVersion: Mar-2004; PackageVersion: revJ, Jan-1996; PackageReference: M14A; PackageDescription: Molded Package S.O., .150in Wide, 14 Lead; RoHS: N; PinCount: 14; Code_JEDEC: MS-012AB; Code_IPC: SOIC127P600-14; ComponentLink1Description: Manufacturer URL; ComponentLink1URL: http://www.national.com/; ComponentLink2Description: LM339 Datasheet; ComponentLink2URL: http://www.national.com/ds/LM/LM339.pdf; ComponentLink3Description: LM339 Web Page; ComponentLink3URL: http://www.national.com/pf/LM/LM339.html; ComponentLink4Description: M14A Package Page; ComponentLink4URL: http://www.national.com/packaging/folders/m14a.html
footprint M14A_N (SOIC, 14-Leads, Body 8.6x3.9mm, Pitch 1.27mm, IPC Medium Density)
footprint M14A_L (SOIC, 14-Leads, Body 8.6x3.9mm, Pitch 1.27mm, IPC High Density)
footprint M14A_M (SOIC, 14-Leads, Body 8.6x3.9mm, Pitch 1.27mm, IPC Low Density)
pins on every part: 3 V+ (power), 12 GND (power)
part A pins: 2 OUT1 (out), 4 IN1- (in), 5 IN1+ (in)
part B pins: 1 OUT2 (out), 6 IN2- (in), 7 IN2+ (in)
part C pins: 8 IN3- (in), 9 IN3+ (in), 14 OUT3 (out)
part D pins: 10 IN4- (in), 11 IN4+ (in), 13 OUT4 (out)

## LM339AM/NOPB
designator U?
Low Power Low Offset Voltage Quad Comparator, 14-pin Narrow SOIC, Pb-Free; PartNumber: LM339AM/NOPB; Manufacturer: National Semiconductor; PackageTopMarking: NSUZXYTTE#*LM339AM; PowerWise: N; CompType: Amplifiers; High-Reliability: Y; DatasheetVersion: Mar-2004; PackageVersion: revJ, Jan-1996; PackageReference: M14A; PackageDescription: Molded Package S.O., .150in Wide, 14 Lead; RoHS: Y; PinCount: 14; Code_JEDEC: MS-012AB; Code_IPC: SOIC127P600-14; ComponentLink1Description: Manufacturer URL; ComponentLink1URL: http://www.national.com/; ComponentLink2Description: LM339 Datasheet; ComponentLink2URL: http://www.national.com/ds/LM/LM339.pdf; ComponentLink3Description: LM339 Web Page; ComponentLink3URL: http://www.national.com/pf/LM/LM339.html; ComponentLink4Description: M14A Package Page; ComponentLink4URL: http://www.national.com/packaging/folders/m14a.html
footprint M14A_N (SOIC, 14-Leads, Body 8.6x3.9mm, Pitch 1.27mm, IPC Medium Density)
footprint M14A_L (SOIC, 14-Leads, Body 8.6x3.9mm, Pitch 1.27mm, IPC High Density)
footprint M14A_M (SOIC, 14-Leads, Body 8.6x3.9mm, Pitch 1.27mm, IPC Low Density)
pins on every part: 3 V+ (power), 12 GND (power)
part A pins: 2 OUT1 (out), 4 IN1- (in), 5 IN1+ (in)
part B pins: 1 OUT2 (out), 6 IN2- (in), 7 IN2+ (in)
part C pins: 8 IN3- (in), 9 IN3+ (in), 14 OUT3 (out)
part D pins: 10 IN4- (in), 11 IN4+ (in), 13 OUT4 (out)

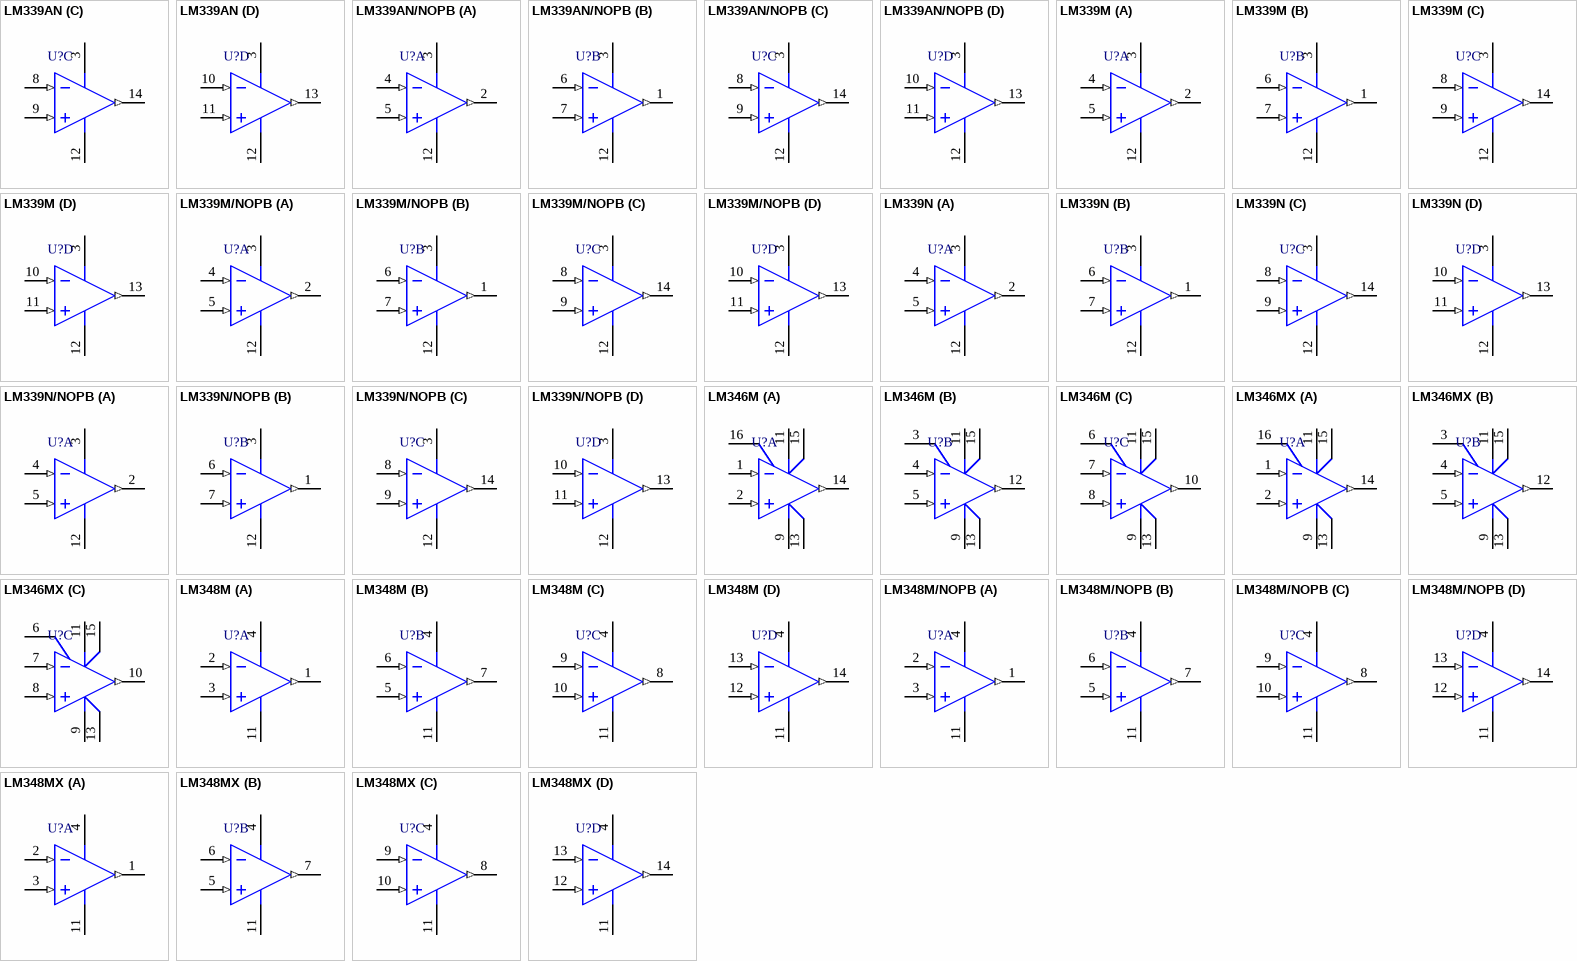
[diagram p12: symbols LM339AN to LM348MX]

## LM339AN
designator U?
Low Power Low Offset Voltage Quad Comparator, 14-pin MDIP; PartNumber: LM339AN; Manufacturer: National Semiconductor; PackageTopMarking: NSUZXYYTTE#*LM339AN; PowerWise: N; CompType: Amplifiers; High-Reliability: Y; DatasheetVersion: Mar-2004; PackageVersion: revG, May-2006; PackageReference: N14A; PackageDescription: MDIP, .750 x .250 x.130in, 14 Lead, .100in Pitch; RoHS: N; PinCount: 14; Code_JEDEC: MS-001-AA; ComponentLink1Description: Manufacturer URL; ComponentLink1URL: http://www.national.com/; ComponentLink2Description: LM339 Datasheet; ComponentLink2URL: http://www.national.com/ds/LM/LM339.pdf; ComponentLink3Description: LM339 Web Page; ComponentLink3URL: http://www.national.com/pf/LM/LM339.html; ComponentLink4Description: N14A Package Page; ComponentLink4URL: http://www.national.com/packaging/folders/n14a.html
footprint N14A (DIP, 14-Leads, Row Spacing 7.62mm, Pitch 2.54mm, Body 19.56x6.35mm)
pins on every part: 3 V+ (power), 12 GND (power)
part A pins: 2 OUT1 (out), 4 IN1- (in), 5 IN1+ (in)
part B pins: 1 OUT2 (out), 6 IN2- (in), 7 IN2+ (in)
part C pins: 8 IN3- (in), 9 IN3+ (in), 14 OUT3 (out)
part D pins: 10 IN4- (in), 11 IN4+ (in), 13 OUT4 (out)

## LM339AN/NOPB
designator U?
Low Power Low Offset Voltage Quad Comparator, 14-pin MDIP, Pb-Free; PartNumber: LM339AN/NOPB; Manufacturer: National Semiconductor; PackageTopMarking: NSUZXYYTTE#*LM339AN; PowerWise: N; CompType: Amplifiers; High-Reliability: Y; DatasheetVersion: Mar-2004; PackageVersion: revG, May-2006; PackageReference: N14A; PackageDescription: MDIP, .750 x .250 x.130in, 14 Lead, .100in Pitch; RoHS: Y; PinCount: 14; Code_JEDEC: MS-001-AA; ComponentLink1Description: Manufacturer URL; ComponentLink1URL: http://www.national.com/; ComponentLink2Description: LM339 Datasheet; ComponentLink2URL: http://www.national.com/ds/LM/LM339.pdf; ComponentLink3Description: LM339 Web Page; ComponentLink3URL: http://www.national.com/pf/LM/LM339.html; ComponentLink4Description: N14A Package Page; ComponentLink4URL: http://www.national.com/packaging/folders/n14a.html
footprint N14A (DIP, 14-Leads, Row Spacing 7.62mm, Pitch 2.54mm, Body 19.56x6.35mm)
pins on every part: 3 V+ (power), 12 GND (power)
part A pins: 2 OUT1 (out), 4 IN1- (in), 5 IN1+ (in)
part B pins: 1 OUT2 (out), 6 IN2- (in), 7 IN2+ (in)
part C pins: 8 IN3- (in), 9 IN3+ (in), 14 OUT3 (out)
part D pins: 10 IN4- (in), 11 IN4+ (in), 13 OUT4 (out)

## LM339M
designator U?
Low Power Low Offset Voltage Quad Comparator, 14-pin Narrow SOIC; PartNumber: LM339M; Manufacturer: National Semiconductor; PackageTopMarking: NSUZXYTTE#*LM339M; PowerWise: N; CompType: Amplifiers; High-Reliability: Y; DatasheetVersion: Mar-2004; PackageVersion: revJ, Jan-1996; PackageReference: M14A; PackageDescription: Molded Package S.O., .150in Wide, 14 Lead; RoHS: N; PinCount: 14; Code_JEDEC: MS-012AB; Code_IPC: SOIC127P600-14; ComponentLink1Description: Manufacturer URL; ComponentLink1URL: http://www.national.com/; ComponentLink2Description: LM339 Datasheet; ComponentLink2URL: http://www.national.com/ds/LM/LM339.pdf; ComponentLink3Description: LM339 Web Page; ComponentLink3URL: http://www.national.com/pf/LM/LM339.html; ComponentLink4Description: M14A Package Page; ComponentLink4URL: http://www.national.com/packaging/folders/m14a.html
footprint M14A_N (SOIC, 14-Leads, Body 8.6x3.9mm, Pitch 1.27mm, IPC Medium Density)
footprint M14A_L (SOIC, 14-Leads, Body 8.6x3.9mm, Pitch 1.27mm, IPC High Density)
footprint M14A_M (SOIC, 14-Leads, Body 8.6x3.9mm, Pitch 1.27mm, IPC Low Density)
pins on every part: 3 V+ (power), 12 GND (power)
part A pins: 2 OUT1 (out), 4 IN1- (in), 5 IN1+ (in)
part B pins: 1 OUT2 (out), 6 IN2- (in), 7 IN2+ (in)
part C pins: 8 IN3- (in), 9 IN3+ (in), 14 OUT3 (out)
part D pins: 10 IN4- (in), 11 IN4+ (in), 13 OUT4 (out)

## LM339M/NOPB
designator U?
Low Power Low Offset Voltage Quad Comparator, 14-pin Narrow SOIC, Pb-Free; PartNumber: LM339M/NOPB; Manufacturer: National Semiconductor; PackageTopMarking: NSUZXYTTE#*LM339M; PowerWise: N; CompType: Amplifiers; High-Reliability: Y; DatasheetVersion: Mar-2004; PackageVersion: revJ, Jan-1996; PackageReference: M14A; PackageDescription: Molded Package S.O., .150in Wide, 14 Lead; RoHS: Y; PinCount: 14; Code_JEDEC: MS-012AB; Code_IPC: SOIC127P600-14; ComponentLink1Description: Manufacturer URL; ComponentLink1URL: http://www.national.com/; ComponentLink2Description: LM339 Datasheet; ComponentLink2URL: http://www.national.com/ds/LM/LM339.pdf; ComponentLink3Description: LM339 Web Page; ComponentLink3URL: http://www.national.com/pf/LM/LM339.html; ComponentLink4Description: M14A Package Page; ComponentLink4URL: http://www.national.com/packaging/folders/m14a.html
footprint M14A_N (SOIC, 14-Leads, Body 8.6x3.9mm, Pitch 1.27mm, IPC Medium Density)
footprint M14A_L (SOIC, 14-Leads, Body 8.6x3.9mm, Pitch 1.27mm, IPC High Density)
footprint M14A_M (SOIC, 14-Leads, Body 8.6x3.9mm, Pitch 1.27mm, IPC Low Density)
pins on every part: 3 V+ (power), 12 GND (power)
part A pins: 2 OUT1 (out), 4 IN1- (in), 5 IN1+ (in)
part B pins: 1 OUT2 (out), 6 IN2- (in), 7 IN2+ (in)
part C pins: 8 IN3- (in), 9 IN3+ (in), 14 OUT3 (out)
part D pins: 10 IN4- (in), 11 IN4+ (in), 13 OUT4 (out)

## LM339N
designator U?
Low Power Low Offset Voltage Quad Comparator, 14-pin MDIP; PartNumber: LM339N; Manufacturer: National Semiconductor; PackageTopMarking: NSUZXYYTTE#*LM339N; PowerWise: N; CompType: Amplifiers; High-Reliability: Y; DatasheetVersion: Mar-2004; PackageVersion: revG, May-2006; PackageReference: N14A; PackageDescription: MDIP, .750 x .250 x.130in, 14 Lead, .100in Pitch; RoHS: N; PinCount: 14; Code_JEDEC: MS-001-AA; ComponentLink1Description: Manufacturer URL; ComponentLink1URL: http://www.national.com/; ComponentLink2Description: LM339 Datasheet; ComponentLink2URL: http://www.national.com/ds/LM/LM339.pdf; ComponentLink3Description: LM339 Web Page; ComponentLink3URL: http://www.national.com/pf/LM/LM339.html; ComponentLink4Description: N14A Package Page; ComponentLink4URL: http://www.national.com/packaging/folders/n14a.html
footprint N14A (DIP, 14-Leads, Row Spacing 7.62mm, Pitch 2.54mm, Body 19.56x6.35mm)
pins on every part: 3 V+ (power), 12 GND (power)
part A pins: 2 OUT1 (out), 4 IN1- (in), 5 IN1+ (in)
part B pins: 1 OUT2 (out), 6 IN2- (in), 7 IN2+ (in)
part C pins: 8 IN3- (in), 9 IN3+ (in), 14 OUT3 (out)
part D pins: 10 IN4- (in), 11 IN4+ (in), 13 OUT4 (out)

## LM339N/NOPB
designator U?
Low Power Low Offset Voltage Quad Comparator, 14-pin MDIP, Pb-Free; PartNumber: LM339N/NOPB; Manufacturer: National Semiconductor; PackageTopMarking: NSUZXYYTTE#*LM339N; PowerWise: N; CompType: Amplifiers; High-Reliability: Y; DatasheetVersion: Mar-2004; PackageVersion: revG, May-2006; PackageReference: N14A; PackageDescription: MDIP, .750 x .250 x.130in, 14 Lead, .100in Pitch; RoHS: Y; PinCount: 14; Code_JEDEC: MS-001-AA; ComponentLink1Description: Manufacturer URL; ComponentLink1URL: http://www.national.com/; ComponentLink2Description: LM339 Datasheet; ComponentLink2URL: http://www.national.com/ds/LM/LM339.pdf; ComponentLink3Description: LM339 Web Page; ComponentLink3URL: http://www.national.com/pf/LM/LM339.html; ComponentLink4Description: N14A Package Page; ComponentLink4URL: http://www.national.com/packaging/folders/n14a.html
footprint N14A (DIP, 14-Leads, Row Spacing 7.62mm, Pitch 2.54mm, Body 19.56x6.35mm)
pins on every part: 3 V+ (power), 12 GND (power)
part A pins: 2 OUT1 (out), 4 IN1- (in), 5 IN1+ (in)
part B pins: 1 OUT2 (out), 6 IN2- (in), 7 IN2+ (in)
part C pins: 8 IN3- (in), 9 IN3+ (in), 14 OUT3 (out)
part D pins: 10 IN4- (in), 11 IN4+ (in), 13 OUT4 (out)

## LM346M
designator U?
Programmable Quad Operational Amplifier, 16-pin Narrow SOIC; PartNumber: LM346M; Manufacturer: National Semiconductor; PackageTopMarking: NSUZXYTTE#*LM346M; PowerWise: Y; CompType: Amplifiers; DatasheetVersion: Aug-2000; PackageVersion: revJ, Aug-1995; PackageReference: M16A; PackageDescription: Molded Package, SO, .150in Wide, 16 Lead; RoHS: N; PinCount: 16; High-Reliability: Y; Code_JEDEC: MS-012-AC; Code_IPC: SOIC127P600-16; ComponentLink1Description: Manufacturer URL; ComponentLink1URL: http://www.national.com/; ComponentLink2Description: LM346 Datasheet; ComponentLink2URL: http://www.national.com/ds/LM/LM346.pdf; ComponentLink3Description: LM346 Web Page; ComponentLink3URL: http://www.national.com/pf/LM/LM346.html; ComponentLink4Description: M16A Package Page; ComponentLink4URL: http://www.national.com/packaging/folders/m16a.html
footprint M16A_N (SOIC, 16-Leads, Body 9.9x3.9mm, Pitch 1.27mm, IPC Medium Density)
footprint M16A_L (SOIC, 16-Leads, Body 9.9x3.9mm, Pitch 1.27mm, IPC High Density)
footprint M16A_M (SOIC, 16-Leads, Body 9.9x3.9mm, Pitch 1.27mm, IPC Low Density)
pins on every part: 9 VS- (power), 11 VS+ (power), 13 VS- (power), 15 VS+ (power)
part A pins: 1 INA- (in), 2 INA+ (in), 14 OUTA (out), 16 ~{DIS A}
part B pins: 3 ~{DIS B}, 4 INB- (in), 5 INB+ (in), 12 OUTB (out)
part C pins: 6 ~{DIS C}, 7 INC- (in), 8 INC+ (in), 10 OUTC (out)

## LM346MX
designator U?
Programmable Quad Operational Amplifier, 16-pin Narrow SOIC; PartNumber: LM346MX; Manufacturer: National Semiconductor; PackageTopMarking: NSUZXYTTE#*LM346M; PowerWise: Y; CompType: Amplifiers; DatasheetVersion: Aug-2000; PackageVersion: revJ, Aug-1995; PackageReference: M16A; PackageDescription: Molded Package, SO, .150in Wide, 16 Lead; RoHS: N; PinCount: 16; High-Reliability: Y; Code_JEDEC: MS-012-AC; Code_IPC: SOIC127P600-16; ComponentLink1Description: Manufacturer URL; ComponentLink1URL: http://www.national.com/; ComponentLink2Description: LM346 Datasheet; ComponentLink2URL: http://www.national.com/ds/LM/LM346.pdf; ComponentLink3Description: LM346 Web Page; ComponentLink3URL: http://www.national.com/pf/LM/LM346.html; ComponentLink4Description: M16A Package Page; ComponentLink4URL: http://www.national.com/packaging/folders/m16a.html
footprint M16A_N (SOIC, 16-Leads, Body 9.9x3.9mm, Pitch 1.27mm, IPC Medium Density)
footprint M16A_L (SOIC, 16-Leads, Body 9.9x3.9mm, Pitch 1.27mm, IPC High Density)
footprint M16A_M (SOIC, 16-Leads, Body 9.9x3.9mm, Pitch 1.27mm, IPC Low Density)
pins on every part: 9 VS- (power), 11 VS+ (power), 13 VS- (power), 15 VS+ (power)
part A pins: 1 INA- (in), 2 INA+ (in), 14 OUTA (out), 16 ~{DIS A}
part B pins: 3 ~{DIS B}, 4 INB- (in), 5 INB+ (in), 12 OUTB (out)
part C pins: 6 ~{DIS C}, 7 INC- (in), 8 INC+ (in), 10 OUTC (out)

## LM348M
designator U?
Quad 741 Op Amp, 14-pin Narrow SOIC; PartNumber: LM348M; Manufacturer: National Semiconductor; PackageTopMarking: NSUZXYTTE#*LM348M; PowerWise: N; CompType: Amplifiers; High-Reliability: Y; DatasheetVersion: Nov-2003; PackageVersion: revJ, Jan-1996; PackageReference: M14A; PackageDescription: Molded Package S.O., .150in Wide, 14 Lead; RoHS: N; PinCount: 14; Code_JEDEC: MS-012AB; Code_IPC: SOIC127P600-14; ComponentLink1Description: Manufacturer URL; ComponentLink1URL: http://www.national.com/; ComponentLink2Description: LM348 Datasheet; ComponentLink2URL: http://www.national.com/ds/LM/LM348.pdf; ComponentLink3Description: LM348 Web Page; ComponentLink3URL: http://www.national.com/pf/LM/LM348.html; ComponentLink4Description: M14A Package Page; ComponentLink4URL: http://www.national.com/packaging/folders/m14a.html
footprint M14A_N (SOIC, 14-Leads, Body 8.6x3.9mm, Pitch 1.27mm, IPC Medium Density)
footprint M14A_L (SOIC, 14-Leads, Body 8.6x3.9mm, Pitch 1.27mm, IPC High Density)
footprint M14A_M (SOIC, 14-Leads, Body 8.6x3.9mm, Pitch 1.27mm, IPC Low Density)
pins on every part: 4 V+ (power), 11 V- (power)
part A pins: 1 OUT1 (out), 2 IN1- (in), 3 IN1+ (in)
part B pins: 5 IN2+ (in), 6 IN2- (in), 7 OUT2 (out)
part C pins: 8 OUT3 (out), 9 IN3- (in), 10 IN3+ (in)
part D pins: 12 IN4+ (in), 13 IN4- (in), 14 OUT4 (out)

## LM348M/NOPB
designator U?
Quad 741 Op Amp, 14-pin Narrow SOIC, Pb-Free; PartNumber: LM348M/NOPB; Manufacturer: National Semiconductor; PackageTopMarking: NSUZXYTTE#*LM348M; PowerWise: N; CompType: Amplifiers; High-Reliability: Y; DatasheetVersion: Nov-2003; PackageVersion: revJ, Jan-1996; PackageReference: M14A; PackageDescription: Molded Package S.O., .150in Wide, 14 Lead; RoHS: Y; PinCount: 14; Code_JEDEC: MS-012AB; Code_IPC: SOIC127P600-14; ComponentLink1Description: Manufacturer URL; ComponentLink1URL: http://www.national.com/; ComponentLink2Description: LM348 Datasheet; ComponentLink2URL: http://www.national.com/ds/LM/LM348.pdf; ComponentLink3Description: LM348 Web Page; ComponentLink3URL: http://www.national.com/pf/LM/LM348.html; ComponentLink4Description: M14A Package Page; ComponentLink4URL: http://www.national.com/packaging/folders/m14a.html
footprint M14A_N (SOIC, 14-Leads, Body 8.6x3.9mm, Pitch 1.27mm, IPC Medium Density)
footprint M14A_L (SOIC, 14-Leads, Body 8.6x3.9mm, Pitch 1.27mm, IPC High Density)
footprint M14A_M (SOIC, 14-Leads, Body 8.6x3.9mm, Pitch 1.27mm, IPC Low Density)
pins on every part: 4 V+ (power), 11 V- (power)
part A pins: 1 OUT1 (out), 2 IN1- (in), 3 IN1+ (in)
part B pins: 5 IN2+ (in), 6 IN2- (in), 7 OUT2 (out)
part C pins: 8 OUT3 (out), 9 IN3- (in), 10 IN3+ (in)
part D pins: 12 IN4+ (in), 13 IN4- (in), 14 OUT4 (out)

## LM348MX
designator U?
Quad 741 Op Amp, 14-pin Narrow SOIC; PartNumber: LM348MX; Manufacturer: National Semiconductor; PackageTopMarking: NSUZXYTTE#*LM348M; PowerWise: N; CompType: Amplifiers; High-Reliability: Y; DatasheetVersion: Nov-2003; PackageVersion: revJ, Jan-1996; PackageReference: M14A; PackageDescription: Molded Package S.O., .150in Wide, 14 Lead; RoHS: N; PinCount: 14; Code_JEDEC: MS-012AB; Code_IPC: SOIC127P600-14; ComponentLink1Description: Manufacturer URL; ComponentLink1URL: http://www.national.com/; ComponentLink2Description: LM348 Datasheet; ComponentLink2URL: http://www.national.com/ds/LM/LM348.pdf; ComponentLink3Description: LM348 Web Page; ComponentLink3URL: http://www.national.com/pf/LM/LM348.html; ComponentLink4Description: M14A Package Page; ComponentLink4URL: http://www.national.com/packaging/folders/m14a.html
footprint M14A_N (SOIC, 14-Leads, Body 8.6x3.9mm, Pitch 1.27mm, IPC Medium Density)
footprint M14A_L (SOIC, 14-Leads, Body 8.6x3.9mm, Pitch 1.27mm, IPC High Density)
footprint M14A_M (SOIC, 14-Leads, Body 8.6x3.9mm, Pitch 1.27mm, IPC Low Density)
pins on every part: 4 V+ (power), 11 V- (power)
part A pins: 1 OUT1 (out), 2 IN1- (in), 3 IN1+ (in)
part B pins: 5 IN2+ (in), 6 IN2- (in), 7 OUT2 (out)
part C pins: 8 OUT3 (out), 9 IN3- (in), 10 IN3+ (in)
part D pins: 12 IN4+ (in), 13 IN4- (in), 14 OUT4 (out)

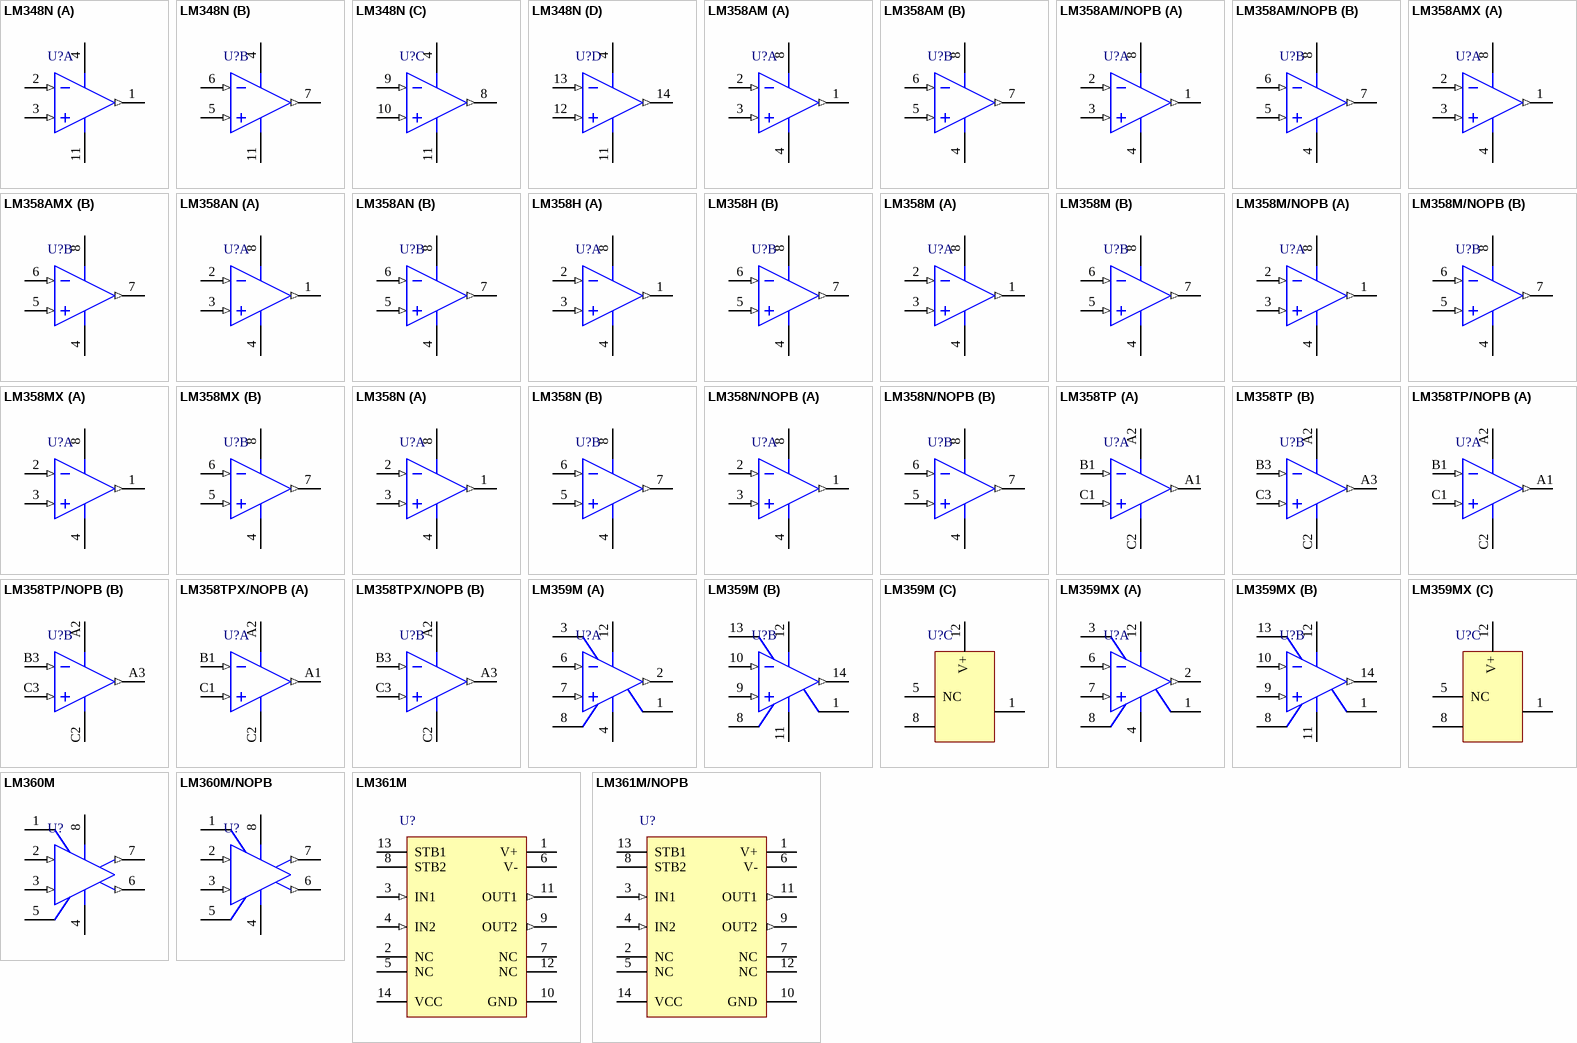
[diagram p13: symbols LM348N to LM361M/NOPB]

## LM348N
designator U?
Quad 741 Op Amp, 14-pin MDIP; PartNumber: LM348N; Manufacturer: National Semiconductor; PackageTopMarking: NSUZXYYTTE#*LM348N; PowerWise: N; CompType: Amplifiers; High-Reliability: Y; DatasheetVersion: Nov-2003; PackageVersion: revG, May-2006; PackageReference: N14A; PackageDescription: MDIP, .750 x .250 x.130in, 14 Lead, .100in Pitch; RoHS: N; PinCount: 14; Code_JEDEC: MS-001-AA; ComponentLink1Description: Manufacturer URL; ComponentLink1URL: http://www.national.com/; ComponentLink2Description: LM348 Datasheet; ComponentLink2URL: http://www.national.com/ds/LM/LM348.pdf; ComponentLink3Description: LM348 Web Page; ComponentLink3URL: http://www.national.com/pf/LM/LM348.html; ComponentLink4Description: N14A Package Page; ComponentLink4URL: http://www.national.com/packaging/folders/n14a.html
footprint N14A (DIP, 14-Leads, Row Spacing 7.62mm, Pitch 2.54mm, Body 19.56x6.35mm)
pins on every part: 4 V+ (power), 11 V- (power)
part A pins: 1 OUT1 (out), 2 IN1- (in), 3 IN1+ (in)
part B pins: 5 IN2+ (in), 6 IN2- (in), 7 OUT2 (out)
part C pins: 8 OUT3 (out), 9 IN3- (in), 10 IN3+ (in)
part D pins: 12 IN4+ (in), 13 IN4- (in), 14 OUT4 (out)

## LM358AM
designator U?
Low Power Dual Operational Amplifier, 8-pin Narrow SOIC; PartNumber: LM358AM; Manufacturer: National Semiconductor; PackageTopMarking: NSZXTT*LM*358AM; PowerWise: N; CompType: Amplifiers; High-Reliability: Y; DatasheetVersion: Oct-2005; PackageVersion: revM, May-2009; PackageReference: M08A; PackageDescription: SOIC Narrow, 4.9 x 3.9 x 1.45mm, 8 Lead, 1.27mm Pitch; RoHS: N; PinCount: 8; Code_JEDEC: MS-012-AA; Code_IPC: SOIC127P600-8; ComponentLink1Description: Manufacturer URL; ComponentLink1URL: http://www.national.com/; ComponentLink2Description: LM358 Datasheet; ComponentLink2URL: http://www.national.com/ds/LM/LM358.pdf; ComponentLink3Description: LM358 Web Page; ComponentLink3URL: http://www.national.com/pf/LM/LM358.html; ComponentLink4Description: M08A Package Page; ComponentLink4URL: http://www.national.com/packaging/folders/m08a.html
footprint M08A_N (SOIC, 8-Leads, Body 4.9x3.9mm, Pitch 1.27mm, IPC Medium Density)
footprint M08A_L (SOIC, 8-Leads, Body 4.9x3.9mm, Pitch 1.27mm, IPC High Density)
footprint M08A_M (SOIC, 8-Leads, Body 4.9x3.9mm, Pitch 1.27mm, IPC Low Density)
pins on every part: 4 GND (power), 8 V+ (power)
part A pins: 1 OUTA (out), 2 INA- (in), 3 INA+ (in)
part B pins: 5 INB+ (in), 6 INB- (in), 7 OUTB (out)

## LM358AM/NOPB
designator U?
Low Power Dual Operational Amplifier, 8-pin Narrow SOIC, Pb-Free; PartNumber: LM358AM/NOPB; Manufacturer: National Semiconductor; PackageTopMarking: NSZXTT*LM*358AM; PowerWise: N; CompType: Amplifiers; High-Reliability: Y; DatasheetVersion: Oct-2005; PackageVersion: revM, May-2009; PackageReference: M08A; PackageDescription: SOIC Narrow, 4.9 x 3.9 x 1.45mm, 8 Lead, 1.27mm Pitch; RoHS: Y; PinCount: 8; Code_JEDEC: MS-012-AA; Code_IPC: SOIC127P600-8; ComponentLink1Description: Manufacturer URL; ComponentLink1URL: http://www.national.com/; ComponentLink2Description: LM358 Datasheet; ComponentLink2URL: http://www.national.com/ds/LM/LM358.pdf; ComponentLink3Description: LM358 Web Page; ComponentLink3URL: http://www.national.com/pf/LM/LM358.html; ComponentLink4Description: M08A Package Page; ComponentLink4URL: http://www.national.com/packaging/folders/m08a.html
footprint M08A_N (SOIC, 8-Leads, Body 4.9x3.9mm, Pitch 1.27mm, IPC Medium Density)
footprint M08A_L (SOIC, 8-Leads, Body 4.9x3.9mm, Pitch 1.27mm, IPC High Density)
footprint M08A_M (SOIC, 8-Leads, Body 4.9x3.9mm, Pitch 1.27mm, IPC Low Density)
pins on every part: 4 GND (power), 8 V+ (power)
part A pins: 1 OUTA (out), 2 INA- (in), 3 INA+ (in)
part B pins: 5 INB+ (in), 6 INB- (in), 7 OUTB (out)

## LM358AMX
designator U?
Low Power Dual Operational Amplifier, 8-pin Narrow SOIC; PartNumber: LM358AMX; Manufacturer: National Semiconductor; PackageTopMarking: NSZXTT*LM*358AM; PowerWise: N; CompType: Amplifiers; High-Reliability: Y; DatasheetVersion: Oct-2005; PackageVersion: revM, May-2009; PackageReference: M08A; PackageDescription: SOIC Narrow, 4.9 x 3.9 x 1.45mm, 8 Lead, 1.27mm Pitch; RoHS: N; PinCount: 8; Code_JEDEC: MS-012-AA; Code_IPC: SOIC127P600-8; ComponentLink1Description: Manufacturer URL; ComponentLink1URL: http://www.national.com/; ComponentLink2Description: LM358 Datasheet; ComponentLink2URL: http://www.national.com/ds/LM/LM358.pdf; ComponentLink3Description: LM358 Web Page; ComponentLink3URL: http://www.national.com/pf/LM/LM358.html; ComponentLink4Description: M08A Package Page; ComponentLink4URL: http://www.national.com/packaging/folders/m08a.html
footprint M08A_N (SOIC, 8-Leads, Body 4.9x3.9mm, Pitch 1.27mm, IPC Medium Density)
footprint M08A_L (SOIC, 8-Leads, Body 4.9x3.9mm, Pitch 1.27mm, IPC High Density)
footprint M08A_M (SOIC, 8-Leads, Body 4.9x3.9mm, Pitch 1.27mm, IPC Low Density)
pins on every part: 4 GND (power), 8 V+ (power)
part A pins: 1 OUTA (out), 2 INA- (in), 3 INA+ (in)
part B pins: 5 INB+ (in), 6 INB- (in), 7 OUTB (out)